# Altium footprint library Component.PcbLib: 79 footprints (part 1 of 5)
Each footprint in its own frame and in the unit in brackets; x right, y up, seen from the top. Pads: shape width x height; smd on the part's side, far side on the other; paste and mask are expansions set on the pad; w line width, h text height; cw(c..) or ccw(c..) is an arc to the next point about the centre after c.
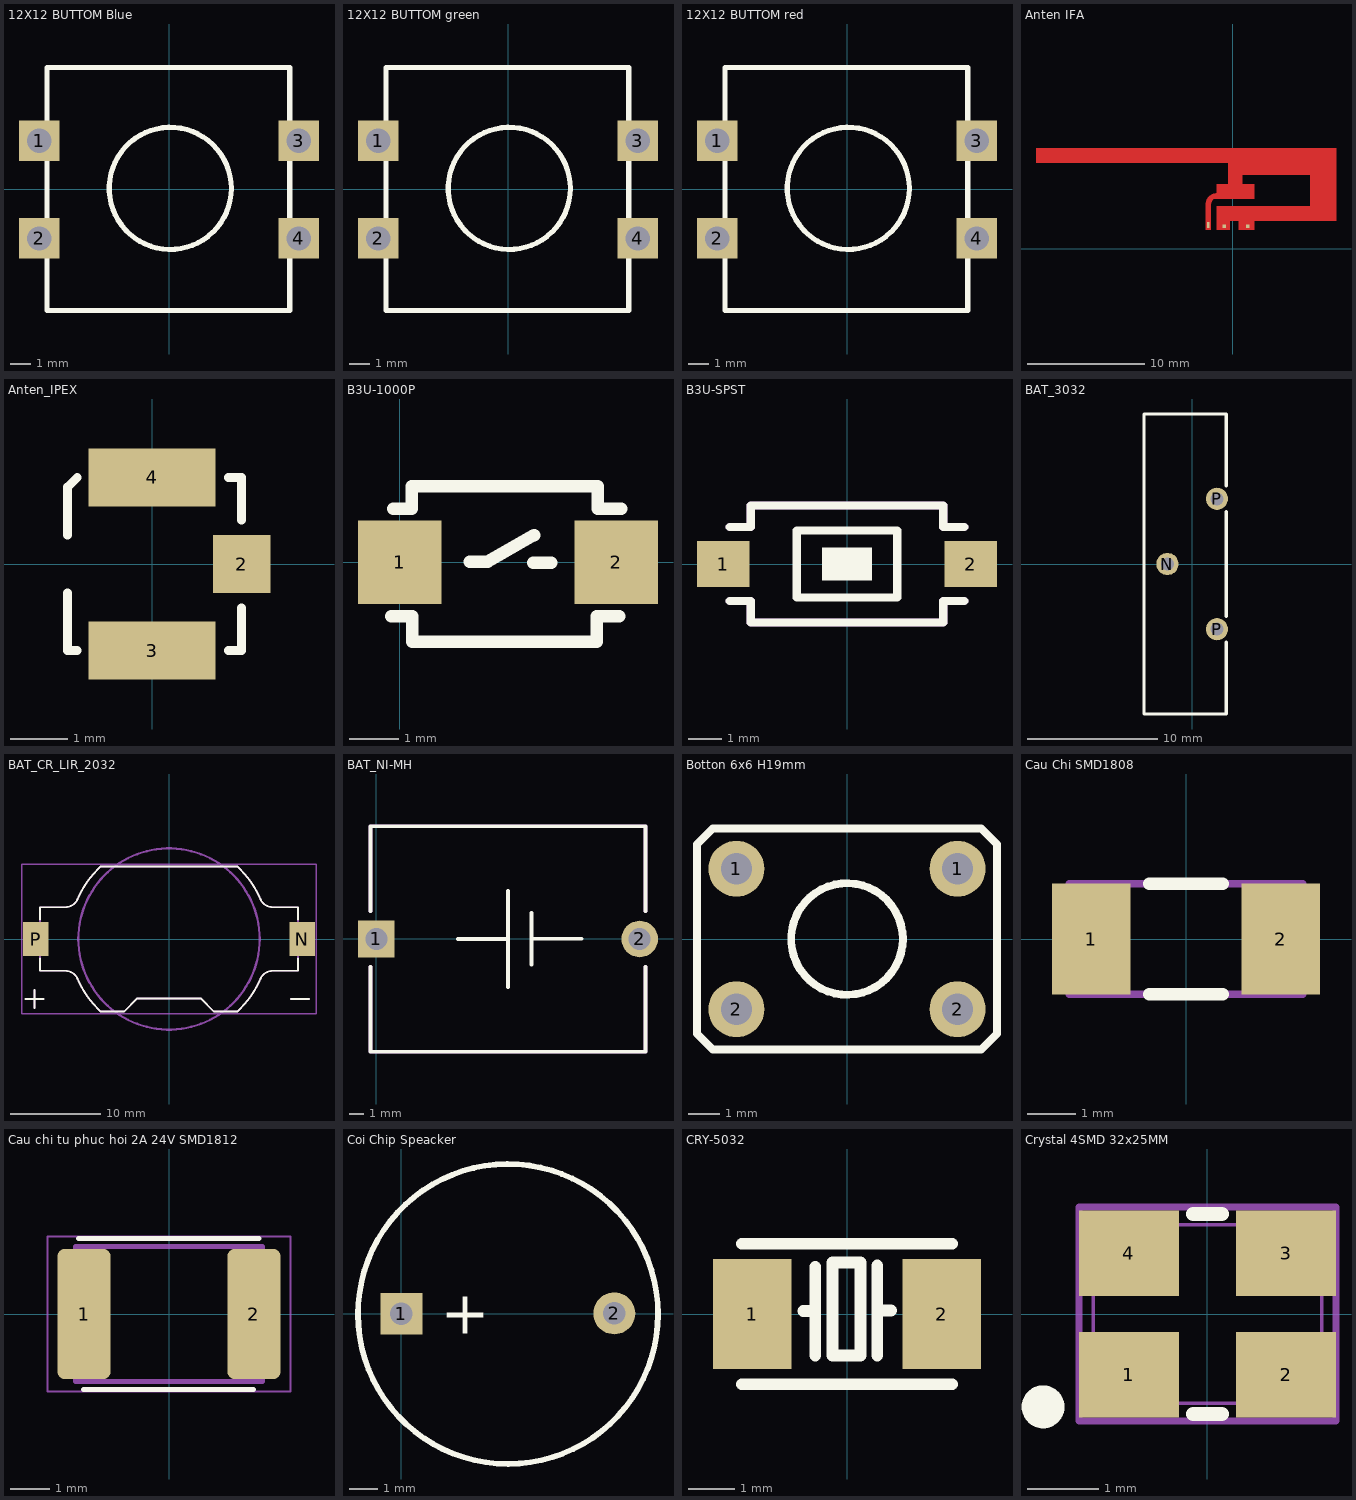
[diagram p0: the footprints below, top view; thin cyan lines are the x and y axes]

## 12X12 BUTTOM Blue [mm]
pads (4):
  rect 2x2 hole 1.2: 1(-6.413,2.38) 2(-6.413,-2.446) 3(6.413,2.38) 4(6.413,-2.446)
Top Overlay:
  circle w0.254: c0.064,0.031 r3.019
  lines w0.254: -6.032,-6 5.967,-6 5.967,6 -6.032,6 -6.032,-6
3D body "12mmx12mm With Blue cap.stp": height 8.84, standoff -3.05, extent -6.708,-6.032 6.708,5.982

## 12X12 BUTTOM green [mm]
pads (4):
  rect 2x2 hole 1.2: 1(-6.413,2.38) 2(-6.413,-2.446) 3(6.413,2.38) 4(6.413,-2.446)
Top Overlay:
  circle w0.254: c0.064,0.031 r3.019
  lines w0.254: -6.032,-6 5.967,-6 5.967,6 -6.032,6 -6.032,-6
3D body "12mmx12mm With Green cap.stp": height 8.84, standoff -3.05, extent -6.734,-5.982 6.683,6.033

## 12X12 BUTTOM red [mm]
pads (4):
  rect 2x2 hole 1.2: 1(-6.413,2.38) 2(-6.413,-2.446) 3(6.413,2.38) 4(6.413,-2.446)
Top Overlay:
  circle w0.254: c0.064,0.031 r3.019
  lines w0.254: -6.032,-6 -6.032,6 5.967,6 5.967,-6 -6.032,-6
3D body "12mmx12mm With Red cap.stp": height 8.84, standoff -3.05, extent -6.708,-6.007 6.708,6.007

## Anten IFA [mm]
pads (3):
  rect 0.3x0.3 smd: 1(-0.737,1.93) 2(1.27,1.93)
  rect 0.2x0.5 smd: 3(-2.108,2.032)
Top Layer:
  region: -16.784,7.351 -16.784,8.561 8.796,8.561 8.796,2.391 1.816,2.391 1.816,1.651 0.521,1.651 0.521,2.391 -0.259,2.391 -0.259,1.651 -1.383,1.651 -1.383,3.643 6.596,3.643 6.596,6.313 0.796,6.313 0.796,5.498 1.811,5.498 1.811,4.294 -1.389,4.294 -1.482,4.285 -1.653,4.214 -1.785,4.082 -1.856,3.911 -1.865,3.818 -1.865,1.651 -2.325,1.651 -2.325,3.797 -2.325,3.89 -2.289,4.072 -2.218,4.243 -2.115,4.397 -1.983,4.528 -1.829,4.631 -1.658,4.702 -1.476,4.738 -1.383,4.738 -1.383,4.739 -1.383,5.513 -0.388,5.513 -0.388,7.351

## Anten_IPEX [mm]
pads (3):
  rect 1x1 smd: 2(1.55,0)
  rect 2.2x1 smd: 3(0,-1.5) 4(0,1.5)
Top Overlay:
  lines w0.152: -1.467,-0.5 -1.467,-1.5 -1.3,-1.5 ; -1.467,0.5 -1.467,1.333 -1.3,1.5 ; 1.321,-1.5 1.55,-1.5 1.55,-0.762 ; 1.321,1.5 1.55,1.5 1.55,0.762
3D body "SMD_COAX_4MM.step": height 1.34, standoff 0, extent -1.3,-1.5 1.55,1.5

## B3U-1000P [mm] "Micro button 3*4*2mm"
pads (2):
  rect 1.7x1.7 smd: 1(0,0) 2(4.4,0)
Top Overlay:
  lines w0.254: -0.173,-1.092 0.258,-1.092 0.258,-1.619 4.002,-1.619 4.002,-1.092 4.462,-1.092 ; -0.135,1.092 0.239,1.092 0.239,1.552 4.022,1.552 4.022,1.092 4.5,1.092 ; 1.422,0.017 1.789,0.017 2.729,0.553 ; 2.715,-0.008 3.082,-0.008
3D body "User Library-Pushbutton3x4x2.STEP": height 2.01, standoff 0.01, extent -0.276,-1.485 4.624,1.415

## B3U-SPST [mm] "Micro button 3*4*2mm"
pads (2):
  rect 1.6x1.4 smd: 1(-3.754,0) 2(3.754,0)
Top Overlay:
  rectangle: -0.762,-0.508 0.762,0.508
  lines w0.254: -3.556,-1.124 -2.921,-1.124 -2.921,-1.778 0,-1.778 2.921,-1.778 2.921,-1.124 3.556,-1.124 ; -3.556,1.124 -2.921,1.124 -2.921,1.778 0,1.778 2.921,1.778 2.921,1.124 3.556,1.124 ; -1.524,-1.016 -1.524,1.016 1.524,1.016 1.524,-1.016 -1.524,-1.016
Mechanical 2:
  lines w0.254: -3.556,-1.124 -2.921,-1.124 -2.921,-1.778 0,-1.778 2.921,-1.778 2.921,-1.124 3.556,-1.124 ; -3.556,1.124 -2.921,1.124 -2.921,1.778 0,1.778 2.921,1.778 2.921,1.124 3.556,1.124
  text "'.Designator'" at -2.54,-0.273 h1.52
3D body "Tactile Switch SMD 6x3.6mm H=2.5mm RS-282G05A3-SM RT.stp": height 2.5, standoff -0.02, extent -4,-1.8 4,1.8

## BAT_3032 [mm]
height 5.6
pads (3):
  round 1.7 hole 1: N(-1.9,0) P(1.9,-5) P(1.9,5)
Top Overlay:
  lines w0.254: 2.6,-5.999 2.6,-11.499 -3.7,-11.499 -3.7,11.499 2.6,11.499 2.6,5.999 ; 2.6,-4 2.6,4
3D body "Cr2032v.stp": height 25.5, standoff -1, extent -3.7,-11.499 2.6,11.499

## BAT_CR_LIR_2032 [mm]
height 5.6
pads (2):
  rect 2.8x3.7 smd: N(14.7,0) P(-14.7,0)
Top Overlay:
  lines w0.203: -15.825,-6.604 -13.825,-6.604 ; -14.825,-7.604 -14.825,-5.604 ; -14.25,-2.159 -14.25,-3.5 -11.456,-3.5 ; -14.25,2.159 -14.25,3.5 -11.456,3.5 ; -7.547,-8 -4.95,-8 -3.5,-6.55 3.5,-6.55 4.95,-8 7.547,-8 ; -7.547,8 7.547,8 ; 13.444,-6.604 15.444,-6.604 ; 14.25,-2.159 14.25,-3.5 11.456,-3.5 ; 14.25,2.159 14.25,3.5 11.456,3.5 ; -11.456,-3.5 cw(c-11.456,-5) -10.228,-4.14 ccw(c-11.456,-5) -11.456,-3.5 ; -11.456,3.5 ccw(c-11.456,5) -10.228,4.14 cw(c-11.456,5) -11.456,3.5 ; 11.456,-3.5 ccw(c11.456,-5) 10.228,-4.14 cw(c11.456,-5) 11.456,-3.5 ; 11.456,3.5 cw(c11.456,5) 10.228,4.14 ccw(c11.456,5) 11.456,3.5 ; -10.228,-4.139 cw(c-11.456,-5) -10.086,-4.39 ccw(c-11.456,-5) -10.228,-4.139 ; -10.228,4.139 ccw(c-11.456,5) -10.086,4.39 cw(c-11.456,5) -10.228,4.139 ; -10.113,-4.326 ccw(c-0.145,-0.095) -7.531,-8.015 cw(c-0.145,-0.095) -10.113,-4.326 ; -10.113,4.326 cw(c-0.145,0.095) -7.531,8.015 ccw(c-0.145,0.095) -10.113,4.326 ; 7.531,-8.015 ccw(c0.145,-0.095) 10.113,-4.326 cw(c0.145,-0.095) 7.531,-8.015 ; 7.531,8.015 cw(c0.145,0.095) 10.113,4.326 ccw(c0.145,0.095) 7.531,8.015 ; 10.086,-4.39 cw(c11.456,-5) 10.228,-4.139 ccw(c11.456,-5) 10.086,-4.39 ; 10.086,4.39 ccw(c11.456,5) 10.228,4.139 cw(c11.456,5) 10.086,4.39
Mechanical 13:
  lines w0.203: -15.825,-6.604 -13.825,-6.604 ; -14.825,-7.604 -14.825,-5.604 ; -10.228,-4.14 ccw(c-11.456,-5) -11.456,-3.5 -14.25,-3.5 -14.25,3.5 -11.456,3.5 ccw(c-11.456,5) -10.228,4.14 ; -10.228,-4.139 cw(c-11.456,-5) -10.086,-4.39 ; -10.228,4.139 ccw(c-11.456,5) -10.086,4.39 ; -10.113,-4.326 ccw(c-0.145,-0.095) -7.531,-8.015 ; -10.113,4.326 cw(c-0.145,0.095) -7.531,8.015 ; -7.547,-8 -4.95,-8 -3.5,-6.55 3.5,-6.55 4.95,-8 7.547,-8 ; -7.547,8 7.547,8 ; 7.531,-8.015 ccw(c0.145,-0.095) 10.113,-4.326 ; 7.531,8.015 cw(c0.145,0.095) 10.113,4.326 ; 10.086,-4.39 cw(c11.456,-5) 10.228,-4.139 ; 10.086,4.39 ccw(c11.456,5) 10.228,4.139 ; 10.228,-4.14 cw(c11.456,-5) 11.456,-3.5 14.25,-3.5 14.25,3.5 11.456,3.5 cw(c11.456,5) 10.228,4.14 ; 13.444,-6.604 15.444,-6.604
Mechanical 15:
  circle w0.254: c0,0 r10
  lines w0.203: -16.25,-8.25 -16.25,8.25 16.25,8.25 16.25,-8.25 -16.25,-8.25
3D body "CR2032--3DModel-STEP-56544.STEP": height 4.9, standoff 1.7, extent -10,-10 10,10
3D body "step_temp.STEP": height 5.6, standoff 0, extent -16,-8.05 16,8.05

## BAT_NI-MH [mm] "L-W-H=20x16x16"
pads (2):
  rect 2.5x2.5 hole 1.5: 1(0,0)
  round 2.5 hole 1.5: 2(18,0)
Top Overlay:
  lines w0.254: -0.4,-1.905 -0.4,-3.48 -0.4,-7.7 18.4,-7.7 18.4,-1.905 ; -0.4,1.905 -0.4,7.7 18.4,7.7 18.4,1.905 ; 5.571,0 9,0 ; 9,-3.302 9,0 ; 9,3.302 9,0 ; 10.6,-1.753 10.6,0.013 ; 10.6,1.778 10.6,0.013 ; 14.029,0.013 10.6,0.013
Mechanical 2:
  lines w0.254: -0.4,-1.905 -0.4,-3.48 -0.4,-7.7 18.4,-7.7 18.4,-1.905 ; -0.4,1.905 -0.4,7.7 18.4,7.7 18.4,1.905
  text "'.Designator'" at 6.333,-0.349 h1.52
3D body "User Library-3_6v 60mAh Battery.STEP": height 16.34, standoff -1.85, extent -0.4,-7.7 18.4,7.7

## Botton 6x6 H19mm [mm] "SW button 4pin, 250 x250 mil"
height 2.54
pads (4):
  round 1.8 hole 1: 1(-3.556,2.261) 1(3.556,2.261) 2(-3.556,-2.261) 2(3.556,-2.261)
Top Overlay:
  circle w0.254: c0,0 r1.796
  lines w0.254: -4.826,-3.048 -4.318,-3.556 4.318,-3.556 4.826,-3.048 4.826,3.048 4.318,3.556 -4.318,3.556 -4.826,3.048 -4.826,-3.048
3D body "6X6X20_BUTTON.STEP": height 20, standoff -3.45, extent -4.101,-3 4.101,3

## Cau Chi SMD1808 [mil]
pads (2):
  rect 64x90 smd: 1(-77,0) 2(77,0)
Top Overlay:
  lines w10: -30,-45 30,-45 ; -30,45 30,45
Mechanical 13:
  lines w6: -55,-45 -55,45 ; -55,-45 55,-45 ; -55,-45 -95,-45 -95,45 -55,45 ; -55,45 55,45 ; 55,-45 95,-45 95,45 55,45 ; 55,-45 55,45
3D body "User Library-SMD Ceramic Capacitors_1808 (4520)_LF.STEP": height 39.37, standoff 0, extent -90.79,-39.36 90.8,39.38

## Cau chi tu phuc hoi 2A 24V SMD1812 [mm]
pads (2):
  rrect25% 1.34x3.29 smd: 1(-2.15,0) 2(2.15,0)
Top Overlay:
  lines w0.127: -2.286,1.905 2.274,1.905 ; -2.159,-1.905 2.141,-1.905
Mechanical 13:
  lines w0.127: -2.37,-1.71 -2.37,1.71 2.37,1.71 2.37,-1.71 -2.37,-1.71
Mechanical 15:
  lines w0.05: -3.07,-1.96 -3.07,1.96 3.07,1.96 3.07,-1.96 -3.07,-1.96
3D body "step_temp.STEP": height 1.25, standoff 0, extent -2.275,-1.62 2.275,1.62

## Coi Chip Speacker [mm]
pads (2):
  rect 1.5x1.5 hole 0.8: 1(0,0)
  round 1.5 hole 0.8: 2(7.62,0.013)
Top Overlay:
  lines w0.203: 7.724,3.67 ccw(c3.816,-0.008) 7.76,3.632
  text "+" at 1.41,-0.711 h1.52
3D body "User Library-Buzzer WST-1203UX.step": height 4.5, standoff -9.65, extent -2.215,-6 13.239,6

## CRY-5032 [mm]
pads (2):
  rect 1.7x2.4 smd: 1(-2.06,0) 2(2.06,0)
Top Overlay:
  lines w0.254: -2.286,-1.524 2.286,-1.524 ; -2.286,1.524 2.286,1.524 ; -0.948,0.064 -0.688,0.064 ; -0.688,-0.902 -0.688,1.029 ; 0.658,-0.902 0.658,1.054 ; 0.658,0.076 0.955,0.076 ; -0.315,-0.902 0.292,-0.902 0.292,1.118 -0.315,1.118 -0.315,-0.902
Mechanical 2:
  text "'.Designator'" at -2.616,1.712 h1.8
3D body "User Library-ABM3-1.STEP": height 1.31, standoff 0.01, extent -2.5,-1.6 2.5,1.6

## Crystal 4SMD 32x25MM [mm]
pads (4):
  rect 1.4x1.2 smd: 1(-1.1,-0.85) 2(1.1,-0.85) 3(1.1,0.85) 4(-1.1,0.85)
Top Overlay:
  circle w0.4: c-2.3,-1.3 r0.1
  lines w0.2: -0.2,-1.4 0.2,-1.4 ; -0.2,1.4 0.2,1.4
Mechanical 13:
  circle w0.28: c-1.059,-0.8 r0.141
  lines w0.05: -1.6,-1.25 -1.6,1.25 1.6,1.25 1.6,-1.25 -1.6,-1.25
Mechanical 15:
  circle w0.1: c-1.2,-0.9 r0.4
  lines w0.1: -1.8,-1.5 1.8,-1.5 1.8,1.5 -1.8,1.5 -1.8,-1.5
3D body "User Library-3225-1.step": height 0.62, standoff 0.01, extent -1.6,-1.25 1.6,1.25